# EAGLE library part USB-MINIB (library my)
USB-MiniB 基板取付用ＵＳＢコネクタ・ミニＢ
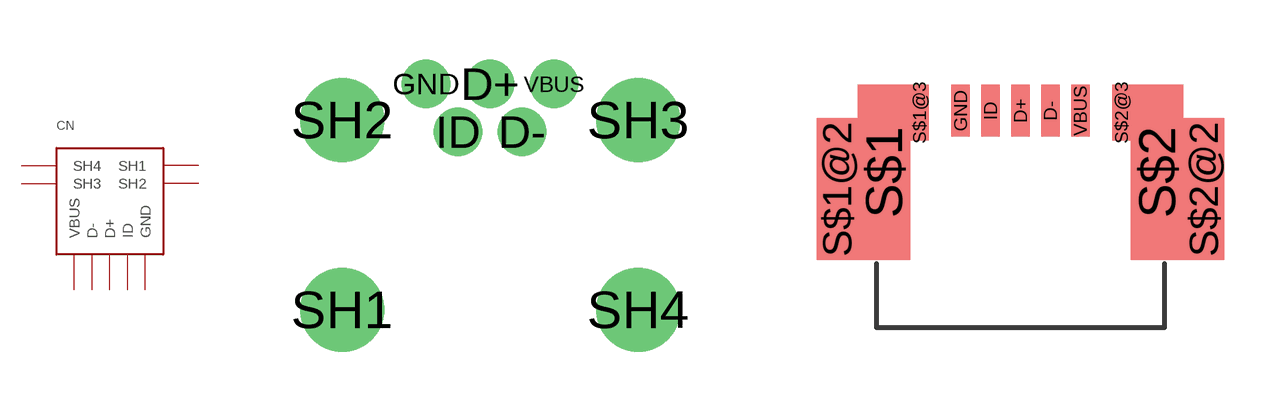
[diagram p0: symbol with the pads of USB-MINIB-C-02235; footprints USB-MINIB-C-02235, USB-MINIB-UX60SC-MB]

Designator prefix CN

## USB-MINIB-C-02235  [USB-MINIB-C-02235]
D+  D+
D-  D-
GND  GND
ID  ID
SH1  SH1
SH2  SH2
SH3  SH3
SH4  SH4
VBUS  VBUS

## USB-MINIB-UX60SC-MB  [USB-MINIB-UX60SC-MB]
D+  D+
D-  D-
GND  GND
ID  ID
S$1  SH1
S$1@2  SH3
S$1@3  SH3
S$2  SH2
S$2@2  SH4
S$2@3  SH4
VBUS  VBUS

## Footprint USB-MINIB-C-02235 (pad centres in mm)
基板取付用ＵＳＢコネクタ・ミニＢ スルーホールタイプ http://akizukidenshi.com/catalog/g/gC-02235/ http://akizukidenshi.com/download/c2235_dim.pdf
drill 0.7: D+ 0,3.4; D- 0.8,2.2; GND -1.6,3.4; ID -0.8,2.2; VBUS 1.6,3.4
drill 1.4: SH1 -3.7,-2.25; SH2 -3.7,2.5; SH3 3.7,2.5; SH4 3.7,-2.25

## Footprint USB-MINIB-UX60SC-MB (pad centres in mm)
USB MINIB Connector UX60SC-MB-5ST http://akizukidenshi.com/catalog/g/gC-05690/ http://akizukidenshi.com/download/ds/hirose/UX60SC-MB-5ST_UX60SC-MB-5S8.pdf http://www.hirose.co.jp/catalogj_hp/j24000153.pdf
smd 0.5 x 1.4: D+ 0,5.8; D- 0.8,5.8; GND -1.6,5.8; ID -0.8,5.8; VBUS 1.6,5.8
smd 1.4 x 4.7: S$1 -3.65,4.15; S$2 3.65,4.15
smd 1.1 x 3.8: S$1@2 -4.9,3.7; S$2@2 4.9,3.7
smd 0.5 x 1.5: S$1@3 -2.7,5.75; S$2@3 2.7,5.75